# EAGLE library part DIPSWITCH-04 (library EE445L)
4 position SPST switch Jonathan Valvano
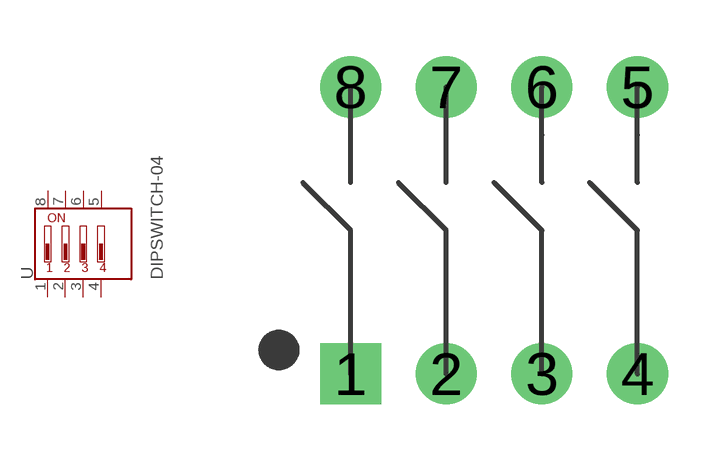
[diagram p41: symbol with the pads of DIP08_SWITCH; footprint DIP08_SWITCH]

Designator prefix -

## DIPSWITCH-04  [DIP08_SWITCH]
1  1
2  2
3  3
4  4
5  5
6  6
7  7
8  8

## Footprint DIP08_SWITCH (pad centres in mm)
Dual In Line Package
drill 0.9 pad 1.626 square: 1 -3.81,-3.81
drill 0.9 pad 1.626: 2 -1.27,-3.81; 3 1.27,-3.81; 4 3.81,-3.81; 5 3.81,3.81; 6 1.27,3.81; 7 -1.27,3.81; 8 -3.81,3.81